# Altium footprint library CON_DB9.PcbLib: 1 footprints
Each footprint in its own frame and in the unit in brackets; x right, y up, seen from the top. Pads: shape width x height; smd on the part's side, far side on the other; paste and mask are expansions set on the pad; w line width, h text height; cw(c..) or ccw(c..) is an arc to the next point about the centre after c.
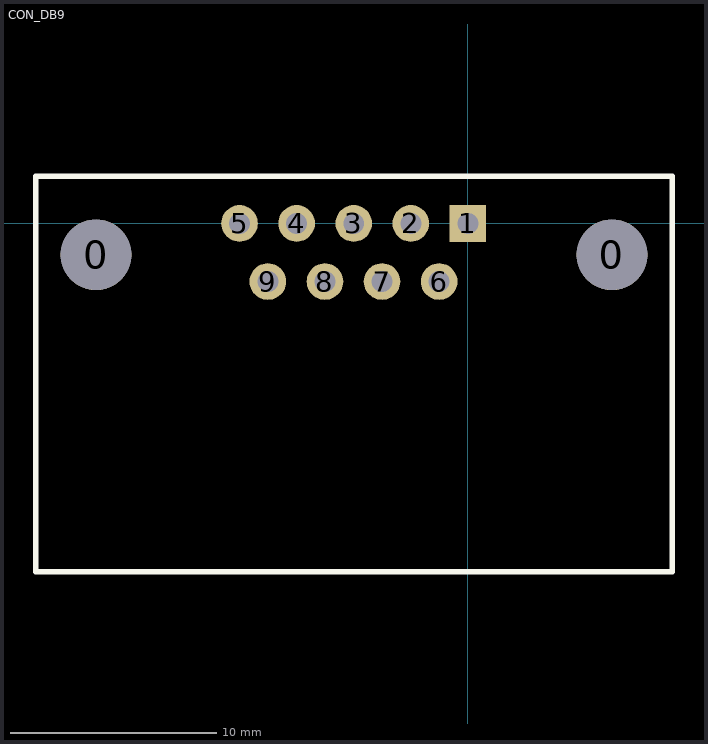
[diagram p0: the footprint, top view; thin cyan lines are the x and y axes]

## CON_DB9 [mil]
pads (11):
  round 135 hole 135: 0(-710,-60) 0(275,-60)
  rect 70x70 hole 40: 1(0,0)
  round 70 hole 40: 2(-109,0) 3(-218,0) 4(-327,0) 5(-436,0) 6(-55,-111) 7(-164,-111) 8(-273,-111) 9(-382,-111)
Top Overlay:
  lines w10: -825,-665 -825,90 390,90 390,-665 -825,-665
3D body: height 526.06, standoff -115.67, extent -824.49,-665.9 388.5,90